# EAGLE library part 15P (library JST)
Disconnectable Crimp style connector, 1.0mm pitch 15 contacts
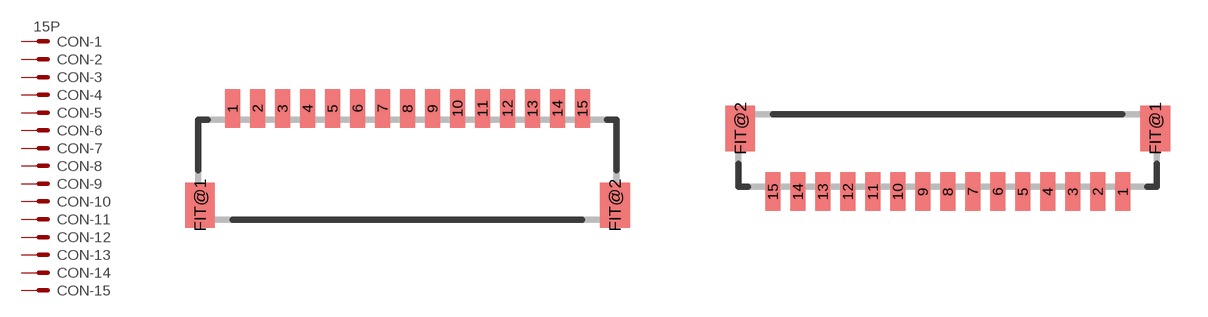
[diagram p9: symbol with the pads of SH-15-SIDE; footprints SH-15-SIDE, SH-15-TOP]

Designator prefix CON; gates -1=KV -2=K -3=K -4=K -5=K -6=K -7=K -8=K -9=K -10=K -11=K -12=K -13=K -14=K -15=K

## 15P-SH-SIDE  [SH-15-SIDE]
1  -1:S  pas
2  -2:S  pas
3  -3:S  pas
4  -4:S  pas
5  -5:S  pas
6  -6:S  pas
7  -7:S  pas
8  -8:S  pas
9  -9:S  pas
10  -10:S  pas
11  -11:S  pas
12  -12:S  pas
13  -13:S  pas
14  -14:S  pas
15  -15:S  pas

## 15P-SH-TOP  [SH-15-TOP]
Pads as for SH-15-SIDE

## Footprint SH-15-SIDE (pad centres in mm)
Shrouded Header, side entry type
smd 0.6 x 1.55: 1 -7,2.975; 2 -6,2.975; 3 -5,2.975; 4 -4,2.975; 5 -3,2.975; 6 -2,2.975; 7 -1,2.975; 8 0,2.975; 9 1,2.975; 10 2,2.975; 11 3,2.975; 12 4,2.975; 13 5,2.975; 14 6,2.975; 15 7,2.975
smd 1.2 x 1.8: FIT@1 -8.3,-0.9; FIT@2 8.3,-0.9

## Footprint SH-15-TOP (pad centres in mm)
Shrouded Header, top entry type
smd 0.6 x 1.55: 1 7,-1.625; 2 6,-1.625; 3 5,-1.625; 4 4,-1.625; 5 3,-1.625; 6 2,-1.625; 7 1,-1.625; 8 0,-1.625; 9 -1,-1.625; 10 -2,-1.625; 11 -3,-1.625; 12 -4,-1.625; 13 -5,-1.625; 14 -6,-1.625; 15 -7,-1.625
smd 1.2 x 1.8: FIT@1 8.3,0.9; FIT@2 -8.3,0.9